# EAGLE library part TPD4E004 (library bodger)
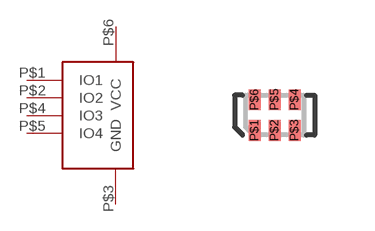
[diagram p47: symbol with the pads of UFDFN-6; footprint UFDFN-6]

Designator prefix -

## TPD4E004  [UFDFN-6]
P$1  IO1
P$2  IO2
P$3  GND  pwr
P$4  IO3
P$5  IO4
P$6  VCC  pwr

## Footprint UFDFN-6 (pad centres in mm)
smd 0.3 x 0.52: P$1 -0.5,-0.385; P$2 0,-0.385; P$3 0.5,-0.385; P$4 0.5,0.385; P$5 0,0.385; P$6 -0.5,0.385